# Altium integrated library 3362P-1-223LF.IntLib: 1 symbol
Pins are listed as number, name and electrical type; pins without a type are passive.

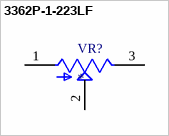
[diagram p0: symbol 3362P-1-223LF]

## 3362P-1-223LF
designator VR?
Res Cermet Trimmer 22K Ohm 10% 0.5W(1/2W) 1(Elec)/1(Mech)Turn 2.77mm (6.6 X 6.99 X 4.7mm) Pin Thru-Hole Tube; MF: Bourns Electronics; MP: 3362P1223LF; SnapEDA_Link: https://www.snapeda.com/parts/3362P1223LF/Bourns/view-part/?ref=snap; Package: 3362P-1 Bourns Inc.; Value: *; Check_prices: https://www.snapeda.com/parts/3362P1223LF/Bourns/view-part/?ref=eda
footprint TRIM_3362P-1-223LF
pins: 1 CCW, 2 WIPER, 3 CW